# EAGLE library part DIGP-MAX5387 (library eagleLib v2)
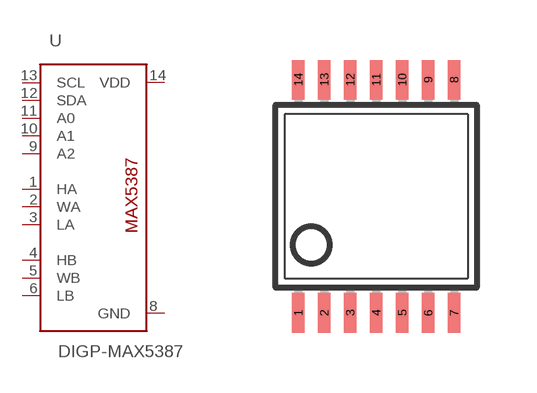
[diagram p26: symbol with the pads of TSSOP14; footprint TSSOP14]

Designator prefix -

## DIGP-MAX5387-TS  [TSSOP14]
1  HA
2  WA
3  LA
4  HB
5  WB
6  LB
8  GND
9  A2
10  A1
11  A0
12  SDA
13  SCL
14  VDD

## Footprint TSSOP14 (pad centres in mm)
Thin Shrink Small Outline Plastic 14 MAX3223-MAX3243.pdf
smd 0.305 x 0.991: 1 -1.95,-2.918; 2 -1.3,-2.918; 3 -0.65,-2.918; 4 0,-2.918; 5 0.65,-2.918; 6 1.3,-2.918; 7 1.95,-2.918; 8 1.95,2.918; 9 1.3,2.918; 10 0.65,2.918; 11 0,2.918; 12 -0.65,2.918; 13 -1.3,2.918; 14 -1.95,2.918